# Altium footprint library LAN8720.PcbLib: 1 footprints
Each footprint in its own frame and in the unit in brackets; x right, y up, seen from the top. Pads: shape width x height; smd on the part's side, far side on the other; paste and mask are expansions set on the pad; w line width, h text height; cw(c..) or ccw(c..) is an arc to the next point about the centre after c.
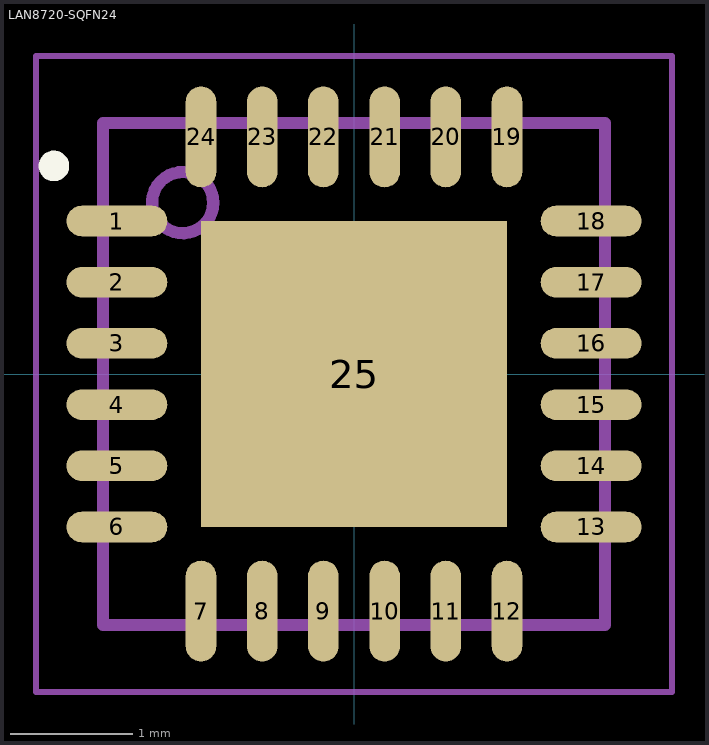
[diagram p0: the footprint, top view; thin cyan lines are the x and y axes]

## LAN8720-SQFN24 [mm] "QFN, 24-Leads, Body 4.00x4.00mm, Pitch 0.50mm, Thermal Pad 2.50x2.50mm, IPC Medium Density"
height 1
pads (25):
  oval 0.825x0.25 smd: 1(-1.937,1.25) 2(-1.937,0.75) 3(-1.937,0.25) 4(-1.937,-0.25) 5(-1.937,-0.75) 6(-1.937,-1.25) 13(1.938,-1.25) 14(1.938,-0.75) 15(1.938,-0.25) 16(1.938,0.25) 17(1.938,0.75) 18(1.938,1.25)
  oval 0.25x0.825 smd: 7(-1.25,-1.938) 8(-0.75,-1.938) 9(-0.25,-1.938) 10(0.25,-1.938) 11(0.75,-1.938) 12(1.25,-1.938) 19(1.25,1.937) 20(0.75,1.937) 21(0.25,1.937) 22(-0.25,1.937) 23(-0.75,1.937) 24(-1.25,1.937)
  rect 2.5x2.5 smd paste-1.25: 25(0,0)
Top Overlay:
  circle w0.125: c-2.452,1.7 r0.062
Top Paste:
  rectangle: -0.944,0.153 -0.153,0.944
  rectangle: -0.944,-0.944 -0.153,-0.153
  rectangle: 0.153,0.153 0.944,0.944
  rectangle: 0.153,-0.944 0.944,-0.153
Top Assembly:
  circle w0.1: c-1.4,1.4 r0.25
  lines w0.1: -2.05,-2.05 -2.05,2.05 2.05,2.05 2.05,-2.05 -2.05,-2.05
Top Courtyard:
  lines w0.05: -2.6,-2.6 -2.6,2.6 2.6,2.6 2.6,-2.6 -2.6,-2.6
Top Component Center:
  lines w0.1: -0.5,0 0.5,0 ; 0,-0.5 0,0.5
3D body: height 1, standoff 0.05, extent -2,-2 2,2